# Altium schematic symbol library switch_2c.SchLib: 1 symbol
Pins are listed as number, name and electrical type; pins without a type are passive.

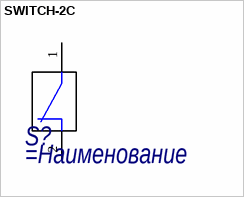
[diagram p0: symbol SWITCH-2C]

## SWITCH-2C
designator S?
=Описание
pins: 1, 2